# Altium footprint library FETs.PcbLib: 9 footprints
Each footprint in its own frame and in the unit in brackets; x right, y up, seen from the top. Pads: shape width x height; smd on the part's side, far side on the other; paste and mask are expansions set on the pad; w line width, h text height; cw(c..) or ccw(c..) is an arc to the next point about the centre after c.
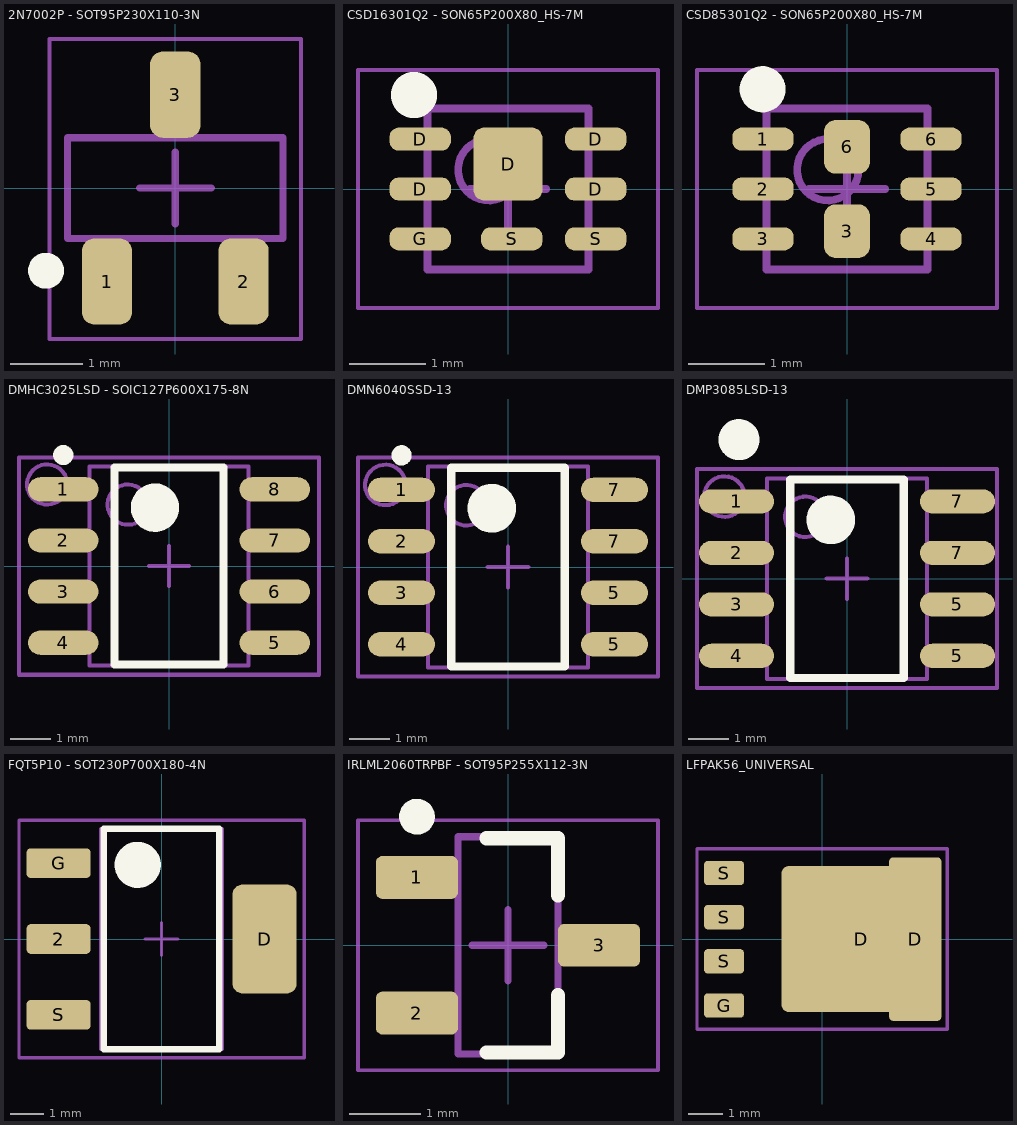
[diagram p0: the footprints below, top view; thin cyan lines are the x and y axes]

## 2N7002P - SOT95P230X110-3N [mm] "SOT23, 3-Leads, Body 2.90x2.30mm, Pitch 0.95mm, IPC Medium Density"
height 1.1
pads (3):
  rrect50% 0.7x1.2 smd paste-0.04: 1(-0.95,-1.3) 2(0.95,-1.3) 3(0,1.3)
Top Overlay:
  circle w0.25: c-1.8,-1.15 r0.125
Mechanical 13:
  lines w0.1: -1.5,-0.7 1.5,-0.7 1.5,0.7 -1.5,0.7 -1.5,-0.7
Mechanical 15:
  lines w0.05: -1.75,-2.1 1.75,-2.1 1.75,2.075 -1.75,2.075 -1.75,-2.1
  lines w0.1: -0.5,0 0.5,0 ; 0,-0.5 0,0.5
Assembly:
  lines w0.05: -1.75,-2.1 -1.75,2.075 1.75,2.075 1.75,-2.1 -1.75,-2.1
  text ".Designator" at 0.3,-2 h1.1
3D body: height 1.1, standoff 0, extent -1.5,-0.7 1.5,0.7

## CSD16301Q2 - SON65P200X80_HS-7M [mm] "SON, 6-Leads, Body 2.00x2.00mm, Pitch 0.65mm, Thermal Pad 0.95x0.89mm, IPC Low Density"
height 0.8
pads (8):
  rrect80% 0.8x0.3 smd paste-99 mask+0.06: D(-1.145,0) D(-1.145,0.65) D(1.145,0) D(1.145,0.65) G(-1.145,-0.65) S(0.05,-0.65) S(1.145,-0.65)
  rrect30% 0.9x0.95 smd paste-99 mask+0.06: D(0,0.325)
Top Overlay:
  circle w0.5: c-1.225,1.225 r0.05
Top Paste:
  circle w0.4: c0,0.325 r0.12
  lines w0.28: -1.388,-0.65 -1.112,-0.65 ; -1.388,0 -1.112,0 ; -1.375,0.65 -1.1,0.65 ; 0.013,-0.65 0.188,-0.65 ; 1.112,-0.65 1.388,-0.65 ; 1.112,0 1.388,0 ; 1.112,0.65 1.388,0.65
Mechanical 13:
  circle w0.1: c-0.25,0.25 r0.4
  lines w0.1: -1.05,-1.05 -1.05,1.05 1.05,1.05 1.05,-1.05 -1.05,-1.05
Mechanical 15:
  lines w0.05: -1.955,-1.55 -1.955,1.55 1.955,1.55 1.955,-1.55 -1.955,-1.55
  lines w0.1: -0.5,0 0.5,0 ; 0,-0.5 0,0.5
3D body: height 0.8, standoff 0, extent -1.05,-1.05 1.05,1.05

## CSD85301Q2 - SON65P200X80_HS-7M [mm] "SON, 6-Leads, Body 2.00x2.00mm, Pitch 0.65mm, Thermal Pad 2.00x0.89mm, IPC Low Density"
height 0.8
pads (8):
  rrect80% 0.8x0.3 smd paste-0.02: 1(-1.095,0.65) 2(-1.095,0) 3(-1.095,-0.65) 4(1.095,-0.65) 5(1.095,0) 6(1.095,0.65)
  rrect50% 0.6x0.7 smd paste-0.1: 3(0,-0.55) 6(0,0.55)
Top Overlay:
  circle w0.4: c-1.1,1.3 r0.1
Mechanical 13:
  circle w0.1: c-0.25,0.25 r0.4
  lines w0.1: -1.05,-1.05 1.05,-1.05 1.05,1.05 -1.05,1.05 -1.05,-1.05
Mechanical 15:
  lines w0.05: -1.955,-1.55 1.955,-1.55 1.955,1.55 -1.955,1.55 -1.955,-1.55
  lines w0.1: -0.5,0 0.5,0 ; 0,-0.5 0,0.5
3D body: height 0.8, standoff 0, extent -1.05,-1.05 1.05,1.05

## DMHC3025LSD - SOIC127P600X175-8N [mm] "SOIC, 8-Leads, Body 4.9x4.0mm (max), Pitch 1.27mm, IPC Medium Density"
height 1.75
pads (8):
  oval 1.75x0.6 smd paste-0.025: 1(-2.625,1.905) 2(-2.625,0.635) 3(-2.625,-0.635) 4(-2.625,-1.905) 5(2.625,-1.905) 6(2.625,-0.635) 7(2.625,0.635) 8(2.625,1.905)
Top Overlay:
  circle w0.6: c-0.35,1.45 r0.3
  circle w0.25: c-2.625,2.755 r0.125
  lines w0.2: -1.35,-2.45 1.35,-2.45 1.35,2.45 -1.35,2.45 -1.35,-2.45
Mechanical 13:
  circle w0.1: c-1.025,1.525 r0.5
  lines w0.1: -1.975,-2.475 1.975,-2.475 1.975,2.475 -1.975,2.475 -1.975,-2.475
Mechanical 15:
  lines w0.1: -0.5,0 0.5,0 ; 0,-0.5 0,0.5 ; -3.725,-2.7 3.725,-2.7 3.725,2.7 -3.725,2.7 -3.725,-2.7
Assembly:
  circle w0.1: c-3.025,2.025 r0.5
  lines w0.1: -3.725,-2.7 -3.725,2.7 3.725,2.7 3.725,-2.7 -3.725,-2.7
  text ".Designator" at -2.4,-0.2 h1.1
3D body: height 1.75, standoff 0.1, extent -1.975,-2.475 1.975,2.475

## DMN6040SSD-13 [mm] "SOP, 8-Leads, Body 4.9x4.0mm (max), Pitch 1.27mm, IPC Medium Density"
height 1.75
pads (8):
  oval 1.65x0.6 smd paste-0.025: 1(-2.625,1.905) 2(-2.625,0.635) 3(-2.625,-0.635) 4(-2.625,-1.905) 5(2.625,-1.905) 5(2.625,-0.635) 7(2.625,0.635) 7(2.625,1.905)
Top Overlay:
  circle w0.25: c-2.625,2.755 r0.125
  circle w0.6: c-0.4,1.45 r0.3
  lines w0.2: -1.4,-2.45 -1.4,2.45 1.4,2.45 1.4,-2.45 -1.4,-2.45
Mechanical 13:
  circle w0.1: c-1.025,1.525 r0.5
  lines w0.1: -1.975,-2.475 -1.975,2.475 1.975,2.475 1.975,-2.475 -1.975,-2.475
Mechanical 15:
  lines w0.1: -0.5,0 0.5,0 ; 0,-0.5 0,0.5 ; -3.7,-2.7 -3.7,2.7 3.7,2.7 3.7,-2.7 -3.7,-2.7
Assembly:
  circle w0.1: c-3.025,2.025 r0.5
  lines w0.1: -3.7,-2.7 3.7,-2.7 3.7,2.7 -3.7,2.7 -3.7,-2.7
  text ".Designator" at -2.4,-0.2 h1.1
3D body: height 1.75, standoff 0.1, extent -1.975,-2.475 1.975,2.475

## DMP3085LSD-13 [mm] "SOP, 8-Leads, Body 4.9x4.0mm (max), Pitch 1.27mm, IPC Medium Density"
height 1.75
pads (8):
  oval 1.85x0.6 smd paste-0.025: 1(-2.725,1.905) 2(-2.725,0.635) 3(-2.725,-0.635) 4(-2.725,-1.905) 5(2.725,-1.905) 5(2.725,-0.635) 7(2.725,0.635) 7(2.725,1.905)
Top Overlay:
  circle w0.6: c-0.4,1.45 r0.3
  circle w0.762: c-2.665,3.429 r0.125
  lines w0.2: -1.4,-2.45 1.4,-2.45 1.4,2.45 -1.4,2.45 -1.4,-2.45
Mechanical 13:
  circle w0.1: c-1.025,1.525 r0.5
  lines w0.1: -1.975,-2.475 1.975,-2.475 1.975,2.475 -1.975,2.475 -1.975,-2.475
Mechanical 15:
  lines w0.1: -0.5,0 0.5,0 ; 0,-0.5 0,0.5 ; -3.7,-2.7 3.7,-2.7 3.7,2.7 -3.7,2.7 -3.7,-2.7
Assembly:
  circle w0.1: c-3.025,2.025 r0.5
  lines w0.1: -3.7,-2.7 -3.7,2.7 3.7,2.7 3.7,-2.7 -3.7,-2.7
  text ".Designator" at -2.4,-0.2 h1.1
3D body: height 1.75, standoff 0.1, extent -1.975,-2.475 1.975,2.475

## FQT5P10 - SOT230P700X180-4N [mm] "SOT223, 4-Leads, Body 6.7x7.3mm (max), Pitch 2.30mm, IPC Medium Density"
height 1.8
pads (4):
  rrect30% 1.95x0.9 smd paste-0.025: 2(-3.125,0) G(-3.125,2.3) S(-3.125,-2.3)
  rrect30% 1.95x3.3 smd paste-0.025: D(3.125,0)
Top Overlay:
  circle w0.9: c-0.725,2.25 r0.25
  lines w0.2: -1.75,-3.35 -1.75,3.35 1.75,3.35 1.75,-3.35 -1.75,-3.35
Mechanical 13:
  lines w0.1: -1.85,-3.35 -1.85,3.35 1.85,3.35 1.85,-3.35 -1.85,-3.35
Mechanical 15:
  lines w0.1: -0.5,0 0.5,0 ; 0,-0.5 0,0.5 ; -4.325,-3.6 -4.325,3.6 4.325,3.6 4.325,-3.6 -4.325,-3.6
Assembly:
  lines w0.1: -4.325,-3.6 4.325,-3.6 4.325,3.6 -4.325,3.6 -4.325,-3.6
  text ".Designator" at -2.4,-0.2 h1.1
3D body: height 1.8, standoff 0.02, extent -1.85,-3.35 1.85,3.35

## IRLML2060TRPBF - SOT95P255X112-3N [mm] "SOT23, 3-Leads, Body 2.92x2.55mm, Pitch 0.95mm, IPC Medium Density"
height 1.12
pads (3):
  rrect30% 1.15x0.6 smd paste-0.025: 1(-1.275,0.95) 2(-1.275,-0.95) 3(1.275,0)
Top Overlay:
  circle w0.25: c-1.275,1.8 r0.125
  lines w0.2: -0.3,-1.5 0.7,-1.5 0.7,-0.7 ; -0.3,1.5 0.7,1.5 0.7,0.7
Mechanical 13:
  lines w0.1: -0.7,-1.52 -0.7,1.52 0.7,1.52 0.7,-1.52 -0.7,-1.52
Mechanical 15:
  lines w0.05: -2.1,-1.75 -2.1,1.75 2.1,1.75 2.1,-1.75 -2.1,-1.75
  lines w0.1: -0.5,0 0.5,0 ; 0,-0.5 0,0.5
Assembly:
  lines w0.05: -2.1,-1.75 2.1,-1.75 2.1,1.75 -2.1,1.75 -2.1,-1.75
  text ".Designator" at -1.9,-0.2 h1.1
3D body: height 1.12, standoff 0.01, extent -0.7,-1.52 0.7,1.52

## LFPAK56_UNIVERSAL [mm]
pads (6):
  rrect10% 4.6x4.2 smd paste-99: D(1.127,-0.002)
  rrect15% 1.5x4.7 smd paste-99: D(2.677,-0.002)
  rrect30% 1.15x0.7 smd paste-0.05: G(-2.823,-1.912) S(-2.823,-0.642) S(-2.823,0.628) S(-2.823,1.898)
Top Paste:
  rectangle: 2.223,-2.26 3.373,-1.56
  rectangle: 2.223,-0.99 3.373,-0.29
  rectangle: 2.223,0.28 3.373,0.98
  rectangle: 2.223,1.55 3.373,2.25
  rectangle: -0.9,0.7 -0.3,1.7
  rectangle: -0.9,-0.45 -0.3,0.45
  rectangle: -0.9,-1.7 -0.3,-0.7
  rectangle: -0.05,0.7 0.55,1.8
  rectangle: -0.05,-0.45 0.55,0.45
  rectangle: -0.05,-1.8 0.55,-0.7
  rectangle: 0.8,-1.7 1.4,-0.7
  rectangle: 0.8,-0.45 1.4,0.45
  rectangle: 0.8,0.7 1.4,1.7
Assembly:
  lines w0.1: -3.6,-2.6 -3.6,2.6 3.6,2.6 3.6,-2.6 -3.6,-2.6
  text ".Designator" at -2.6,-0.3 h1.1
3D body: height 1.2, standoff 0.01, extent -2.998,-2.502 3.002,2.498